# Altium footprint library WIFI PCB MT7620N.PcbLib: 1 footprints
Each footprint in its own frame and in the unit in brackets; x right, y up, seen from the top. Pads: shape width x height; smd on the part's side, far side on the other; paste and mask are expansions set on the pad; w line width, h text height; cw(c..) or ccw(c..) is an arc to the next point about the centre after c.
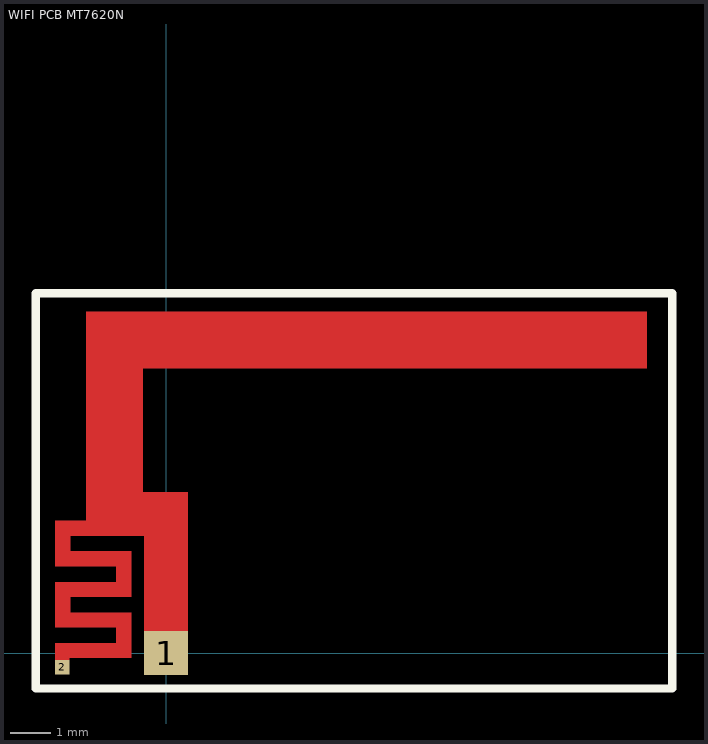
[diagram p0: the footprint, top view; thin cyan lines are the x and y axes]

## WIFI PCB MT7620N [mil]
pads (2):
  rect 43x43 smd mask+2: 1(0,0)
  rect 14x14 smd mask+2: 2(-102,-14)
Top Layer:
  rectangle: -21.65,-10 21.65,158
  region: 21.65,115.09 21.65,158.4 -78.74,158.4 -78.74,115.09
  region: -22.64,335.57 -78.74,335.57 -78.74,115.09 -22.64,115.09
  region: -78.74,335.57 -78.74,279.46 472.44,279.46 472.44,335.57
  region: -94,70 -109,70 -109,25 -94,25
  region: -109,40 -109,25 -34,25 -34,40
  region: -109,70 -109,55 -34,55 -34,70
  rectangle: -49,55 -34,100
  region: -109,100 -109,85 -34,85 -34,100
  region: -94,130 -109,130 -109,85 -94,85
  region: -109,10 -109,-5 -34,-5 -34,10
  rectangle: -49,-5 -34,40
  region: -109,130 -109,115 -34,115 -34,130
  rectangle: -109,-7 -95,10
Top Overlay:
  lines w8: -127.95,-35 497.05,-35 497.05,353.35 -127.95,353.35 -127.95,-35
Top Solder:
  rectangle: -111,-23 -93,11
  rectangle: -111,-6 -33,11
  rectangle: -50,-6 -33,41
  rectangle: -110,24 -33,41
  rectangle: -110,24 -93,71
  rectangle: -110,54 -33,71
  rectangle: -50,54 -33,101
  rectangle: -110,84 -33,101
  rectangle: -110,84 -93,131
  rectangle: -110,114 -72,131
  rectangle: -24,-24 23,160
  rectangle: -80,114 23,160
  rectangle: -80,114 -22,336
  rectangle: -80,278 474,337